# EAGLE library part TPS61220 (library CH_TI)
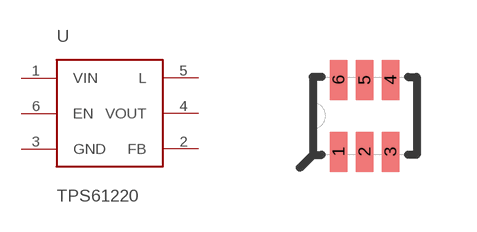
[diagram p1: symbol with the pads of SC70; footprint SC70]

Designator prefix -

## TPS61220  [SC70]
1  VIN
2  FB
3  GND
4  VOUT
5  L
6  EN

## Footprint SC70 (pad centres in mm)
SC70 0.65 BSC package. Land pattern taken from Linear technology LTC3525D-3.3 datasheet
smd 0.446 x 1: 1 -0.65,-0.9; 2 0,-0.9; 3 0.65,-0.9; 4 0.65,0.9; 5 0,0.9; 6 -0.65,0.9